# EAGLE library part WS2801 (library BillPorter)
WS2801 3-Channel Constant Current LED Driver with PWM Outputs. Same one sold at Sparkfun and adafruit. Specs @ http://www.adafruit.com/datasheets/WS2801.pdf
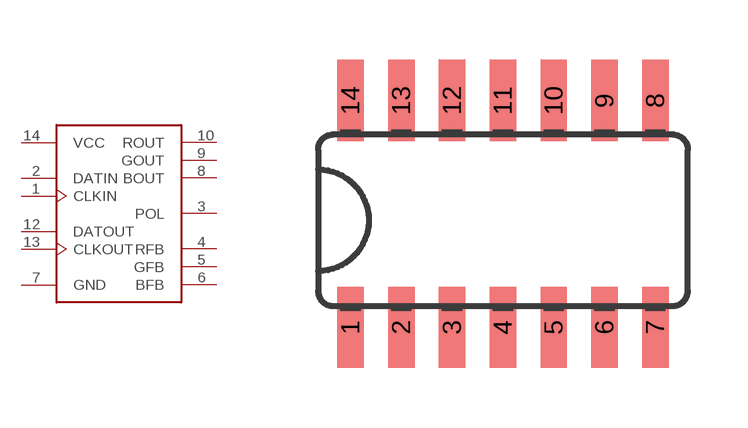
[diagram p1: symbol with the pads of SOP14; footprint SOP14]

Designator prefix -

## WS2801  [SOP14]
1  CLKIN
2  DATIN
3  POL
4  RFB
5  GFB
6  BFB
7  GND
8  BOUT
9  GOUT
10  ROUT
12  DATOUT
13  CLKOUT
14  VCC

## Footprint SOP14 (pad centres in mm)
smd 0.66 x 2.032: 1 -3.345,-2.76; 2 -2.075,-2.76; 3 -0.805,-2.76; 4 0.465,-2.76; 5 1.735,-2.76; 6 3.005,-2.76; 7 4.275,-2.76; 8 4.275,2.917; 9 3.005,2.917; 10 1.735,2.917; 11 0.465,2.917; 12 -0.805,2.917; 13 -2.075,2.917; 14 -3.345,2.917